# EAGLE library part ADCLK925 (library NewSDR)
ADCLK925 ELC Clock/Data Buffer 1:2 7.5GHz
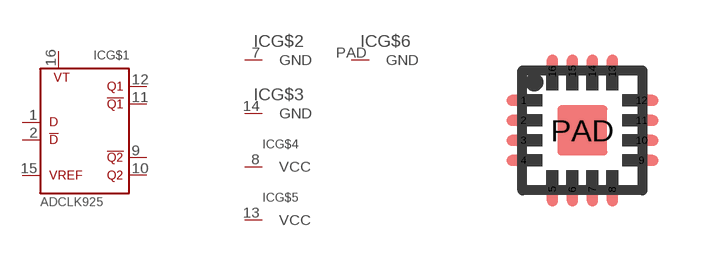
[diagram p136: symbol with the pads of QFN16; footprint QFN16]

Designator prefix IC; gates G$1=ADCLK925 G$2=PIN_GND G$3=PIN_GND G$4=PIN_VCC G$5=PIN_VCC G$6=PIN_GND

## ADCLK925  [QFN16]
1  G$1:D  in
2  G$1:!D  in
7  G$2:GND  pwr
8  G$4:VCC  pwr
9  G$1:!Q2  out
10  G$1:Q2  out
11  G$1:!Q1  out
12  G$1:Q1  out
13  G$5:VCC  pwr
14  G$3:GND  pwr
15  G$1:VREF  pas
16  G$1:VT  pas
PAD  G$6:GND  pwr

## Footprint QFN16 (pad centres in mm)
QFN-16 Quad Flat No Leads
smd 0.85 x 0.28: 1 -1.475,0.75; 2 -1.475,0.25; 3 -1.475,-0.25; 4 -1.475,-0.75; 9 1.475,-0.75; 10 1.475,-0.25; 11 1.475,0.25; 12 1.475,0.75
smd 0.28 x 0.85: 5 -0.75,-1.475; 6 -0.25,-1.475; 7 0.25,-1.475; 8 0.75,-1.475; 13 0.75,1.475; 14 0.25,1.475; 15 -0.25,1.475; 16 -0.75,1.475
smd 1.245 x 1.245: PAD 0,0